# EAGLE library part CP2102N-A01-GQFN20 (library CP2102N-A01-GQFN20)
SILICON LABS - CP2102N-A01-GQFN20 - USB-UART INTERFACE BRIDGE, QFN-20 Source: Datasheet <https://componentsearchengine.com/Datasheets/2/CP2102N-A01-GQFN20.pdf>
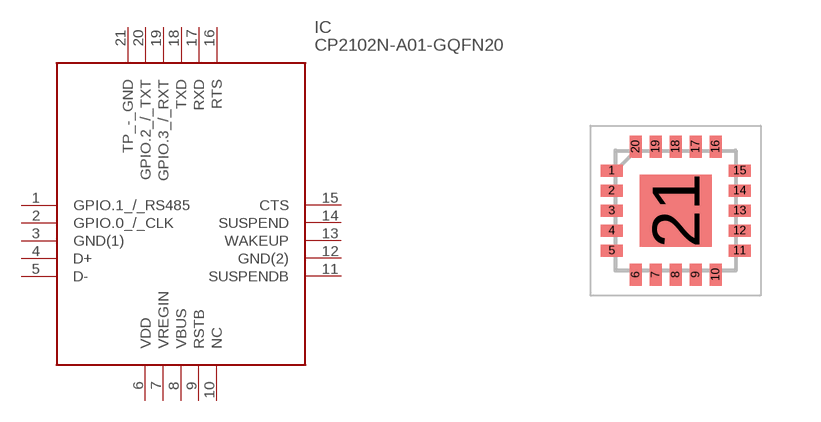
[diagram p0: symbol with the pads of QFN50P300X300X80-21N; footprint QFN50P300X300X80-21N]

Designator prefix IC

## CP2102N-A01-GQFN20 (Arrow_Part_Number: CP2102N-A01-GQFN20; Arrow_Price/Stock: https://www.arrow.com/en/products/cp2102n-a01-gqfn20/silicon-labs; Description: SILICON LABS - CP2102N-A01-GQFN20 - USB-UART INTERFACE BRIDGE, QFN-20; Height: 0.8mm; Manufacturer_Name: Silicon Labs; Manufacturer_Part_Number: CP2102N-A01-GQFN20)  [QFN50P300X300X80-21N]
1  GPIO.1_/_RS485
2  GPIO.0_/_CLK
3  GND(1)
4  D+
5  D-
6  VDD
7  VREGIN
8  VBUS
9  RSTB
10  NC  nc
11  SUSPENDB
12  GND(2)
13  WAKEUP
14  SUSPEND
15  CTS
16  RTS
17  RXD
18  TXD
19  GPIO.3_/_RXT
20  GPIO.2_/_TXT
21  TP_-_GND

## Footprint QFN50P300X300X80-21N (pad centres in mm)
20-Pin QFN
smd 0.55 x 0.3: 1 -1.6,1; 2 -1.6,0.5; 3 -1.6,0; 4 -1.6,-0.5; 5 -1.6,-1; 11 1.6,-1; 12 1.6,-0.5; 13 1.6,0; 14 1.6,0.5; 15 1.6,1
smd 0.3 x 0.55: 6 -1,-1.6; 7 -0.5,-1.6; 8 0,-1.6; 9 0.5,-1.6; 10 1,-1.6; 16 1,1.6; 17 0.5,1.6; 18 0,1.6; 19 -0.5,1.6; 20 -1,1.6
smd 1.8 x 1.8: 21 0,0